# Altium footprint library zxevo.PcbLib: 77 footprints (part 3 of 5)
Each footprint in its own frame and in the unit in brackets; x right, y up, seen from the top. Pads: shape width x height; smd on the part's side, far side on the other; paste and mask are expansions set on the pad; w line width, h text height; cw(c..) or ccw(c..) is an arc to the next point about the centre after c.
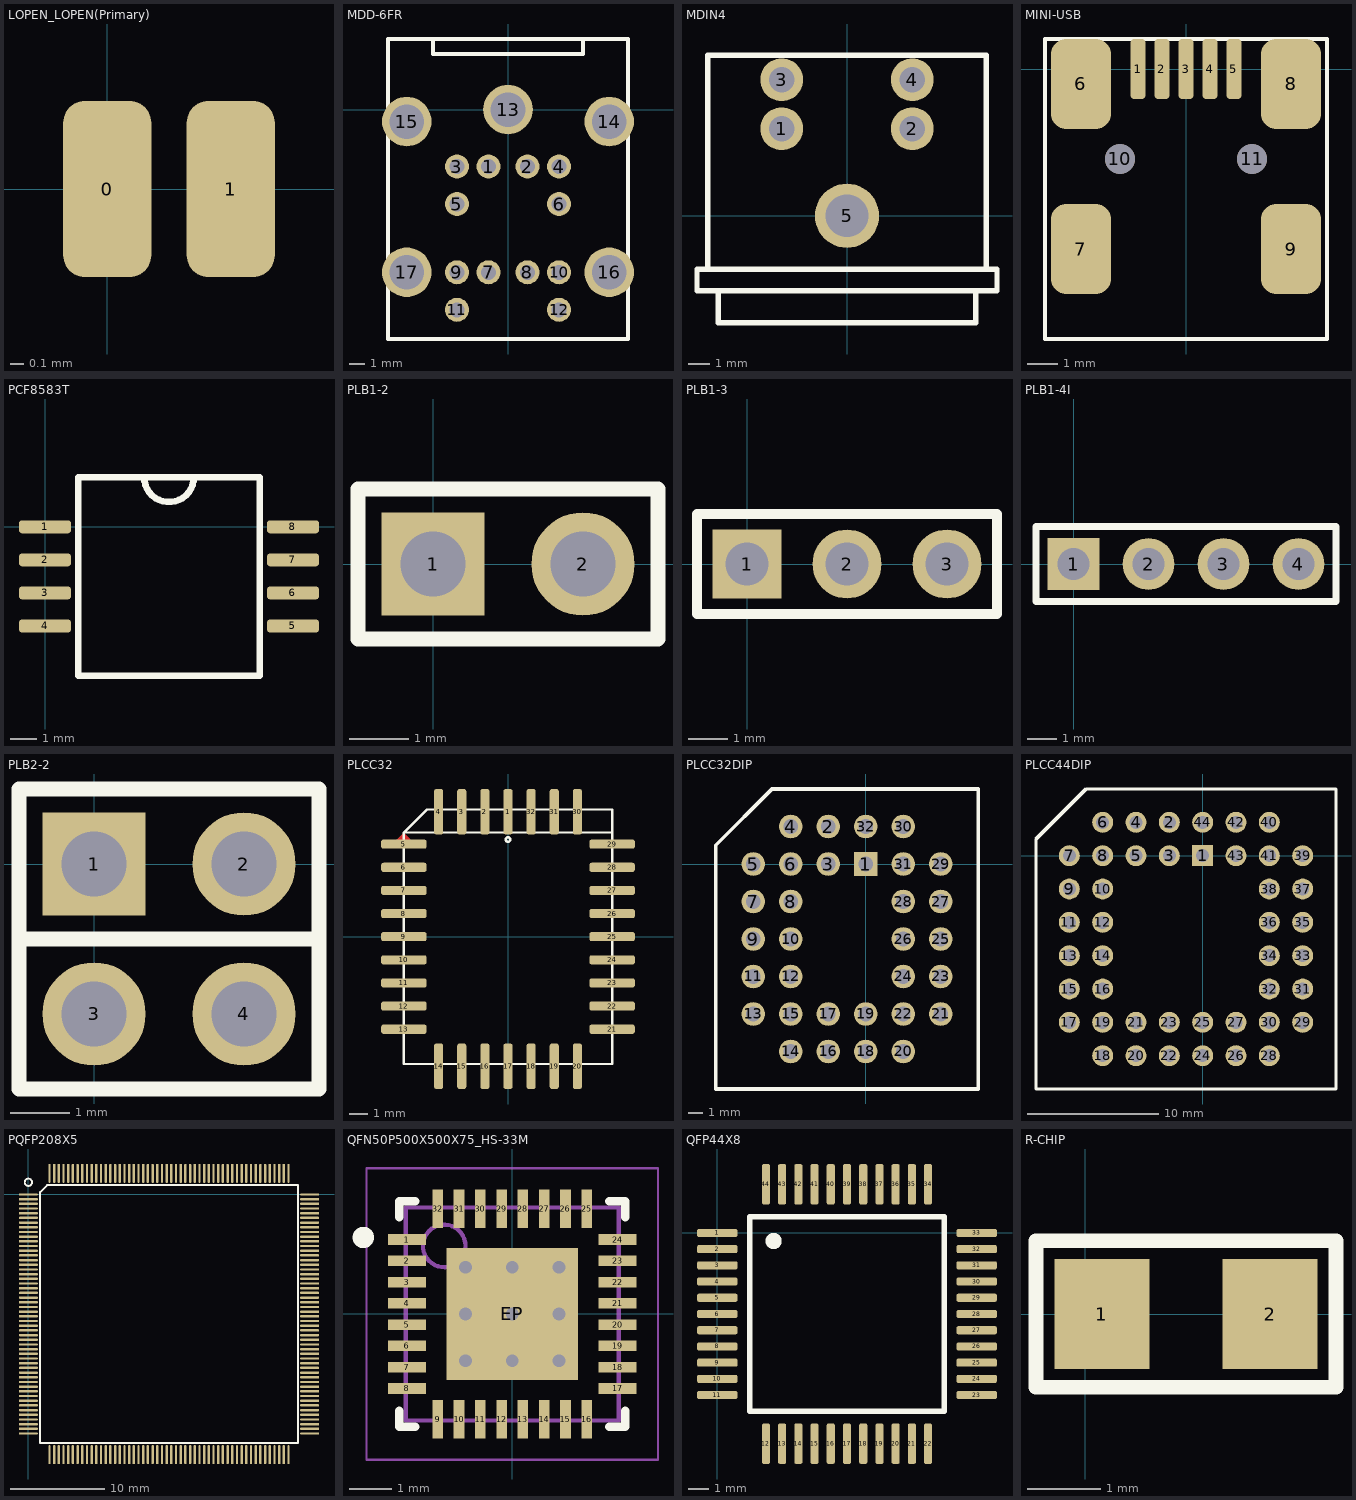
[diagram p2: the footprints below, top view; thin cyan lines are the x and y axes]

## LOPEN_LOPEN(Primary) [mil]
pads (2):
  rrect50% 25x50 smd: 0(0,0) 1(35,0)

## MDD-6FR [mm]
pads (17):
  round 1.6 hole 1: 1(-1.3,-3.8) 2(1.3,-3.8) 3(-3.4,-3.8) 4(3.4,-3.8) 5(-3.4,-6.3) 6(3.4,-6.3) 7(-1.3,-10.85) 8(1.3,-10.85) 9(-3.4,-10.85) 10(3.4,-10.85) 11(-3.4,-13.35) 12(3.4,-13.35)
  round 3.3 hole 2.3: 13(0,0) 14(6.75,-0.8) 15(-6.75,-0.8) 16(6.75,-10.85) 17(-6.75,-10.85)
Top Overlay:
  lines w0.254: -5,4.7 -5,3.7 5,3.7 5,4.7 ; -8,-15.3 8,-15.3 8,4.7 -8,4.7 -8,-15.3

## MDIN4 [mm]
pads (5):
  round 2 hole 1.2: 1(-3.048,4.064) 2(3.048,4.064) 3(-3.048,6.35) 4(3.048,6.35)
  round 3 hole 2: 5(0,0)
Top Overlay:
  lines w0.254: -6,-3.5 -6,-5 6,-5 6,-3.5 ; -6.5,-2.5 6.5,-2.5 ; -6.5,-2.5 -6.5,7.5 6.5,7.5 6.5,-2.5 ; -6.5,-2.5 -7,-2.5 -7,-3.5 7,-3.5 7,-2.5 6.5,-2.5

## MINI-USB [mm]
pads (11):
  rrect50% 0.5x2 smd: 1(-1.6,0) 2(-0.8,0) 3(0,0) 4(0.8,0) 5(1.6,0)
  rrect50% 2x3 smd: 6(-3.5,-0.5) 7(-3.5,-6) 8(3.5,-0.5) 9(3.5,-6)
  round 1 hole 1 unplated: 10(-2.2,-3) 11(2.2,-3)
Top Overlay:
  lines w0.127: -4.7,-9 -4.7,1 4.7,1 4.7,-9 -4.7,-9

## PCF8583T [mm]
pads (8):
  rrect50% 2x0.5 smd: 1(0,0) 2(0,-1.27) 3(0,-2.54) 4(0,-3.81) 5(9.525,-3.81) 6(9.525,-2.54) 7(9.525,-1.27) 8(9.525,0)
Top Overlay:
  lines w0.254: 3.81,1.905 ccw(c4.763,1.905) 5.715,1.905 ; 1.27,-5.715 8.255,-5.715 8.255,1.905 1.27,1.905 1.27,-5.715

## PLB1-2 [mm]
pads (2):
  rect 1.75x1.75 hole 1.1: 1(0,0)
  round 1.75 hole 1.1: 2(2.54,0)
Top Overlay:
  lines w0.254: -1.27,-1.27 -1.27,1.27 3.81,1.27 3.81,-1.27 -1.27,-1.27

## PLB1-3 [mm]
pads (3):
  rect 1.75x1.75 hole 1.1: 1(0,0)
  round 1.75 hole 1.1: 2(2.54,0) 3(5.08,0)
Top Overlay:
  lines w0.254: -1.27,-1.27 -1.27,1.27 6.35,1.27 6.35,-1.27 -1.27,-1.27

## PLB1-4I [mm]
pads (4):
  rect 1.75x1.75 hole 1.1: 1(0,0)
  round 1.75 hole 1.1: 2(2.54,0) 3(5.08,0) 4(7.62,0)
Top Overlay:
  lines w0.25: -1.27,-1.27 -1.27,1.27 8.89,1.27 8.89,-1.27 -1.27,-1.27

## PLB2-2 [mm]
pads (4):
  rect 1.75x1.75 hole 1.1: 1(0,0)
  round 1.75 hole 1.1: 2(2.54,0) 3(0,-2.54) 4(2.54,-2.54)
Top Overlay:
  lines w0.254: -1.27,-1.27 3.81,-1.27 ; -1.27,-3.81 -1.27,1.27 3.81,1.27 3.81,-3.81 -1.27,-3.81

## PLCC32 [mm]
pads (32):
  rrect50% 0.5x2.5 smd: 1(0,6.858) 2(-1.27,6.858) 3(-2.54,6.858) 4(-3.81,6.858) 14(-3.81,-7.112) 15(-2.54,-7.112) 16(-1.27,-7.112) 17(0,-7.112) 18(1.27,-7.112) 19(2.54,-7.112) 20(3.81,-7.112) 30(3.81,6.858) 31(2.54,6.858) 32(1.27,6.858)
  rrect50% 2.5x0.5 smd: 5(-5.715,5.08) 6(-5.715,3.81) 7(-5.715,2.54) 8(-5.715,1.27) 9(-5.715,0) 10(-5.715,-1.27) 11(-5.715,-2.54) 12(-5.715,-3.81) 13(-5.715,-5.08) 21(5.715,-5.08) 22(5.715,-3.81) 23(5.715,-2.54) 24(5.715,-1.27) 25(5.715,0) 26(5.715,1.27) 27(5.715,2.54) 28(5.715,3.81) 29(5.715,5.08)
Top Layer:
  region: -5.08,5.08 -5.715,5.715 -6.35,5.08
Top Overlay:
  circle w0.127: c0,5.334 r0.127
  lines w0.127: 5.715,5.715 -5.715,5.715 ; -5.715,5.715 -5.715,-6.985 5.715,-6.985 5.715,6.985 -4.445,6.985 -5.715,5.715

## PLCC32DIP [mm]
pads (32):
  rect 1.6x1.6 hole 1: 1(0,0)
  round 1.6 hole 1: 2(-2.54,2.54) 3(-2.54,0) 4(-5.08,2.54) 5(-7.62,0) 6(-5.08,0) 7(-7.62,-2.54) 8(-5.08,-2.54) 9(-7.62,-5.08) 10(-5.08,-5.08) 11(-7.62,-7.62) 12(-5.08,-7.62) 13(-7.62,-10.16) 14(-5.08,-12.7) 15(-5.08,-10.16) 16(-2.54,-12.7) 17(-2.54,-10.16) 18(0,-12.7) 19(0,-10.16) 20(2.54,-12.7) 21(5.08,-10.16) 22(2.54,-10.16) 23(5.08,-7.62) 24(2.54,-7.62) 25(5.08,-5.08) 26(2.54,-5.08) 27(5.08,-2.54) 28(2.54,-2.54) 29(5.08,0) 30(2.54,2.54) 31(2.54,0) 32(0,2.54)
Top Overlay:
  lines w0.254: -10.16,-15.24 7.62,-15.24 7.62,5.08 -6.35,5.08 -10.16,1.27 -10.16,-15.24

## PLCC44DIP [mm]
pads (44):
  rect 1.6x1.6 hole 1: 1(0,0)
  round 1.6 hole 1: 2(-2.54,2.54) 3(-2.54,0) 4(-5.08,2.54) 5(-5.08,0) 6(-7.62,2.54) 7(-10.16,0) 8(-7.62,0) 9(-10.16,-2.54) 10(-7.62,-2.54) 11(-10.16,-5.08) 12(-7.62,-5.08) 13(-10.16,-7.62) 14(-7.62,-7.62) 15(-10.16,-10.16) 16(-7.62,-10.16) 17(-10.16,-12.7) 18(-7.62,-15.24) 19(-7.62,-12.7) 20(-5.08,-15.24) 21(-5.08,-12.7) 22(-2.54,-15.24) 23(-2.54,-12.7) 24(0,-15.24) 25(0,-12.7) 26(2.54,-15.24) 27(2.54,-12.7) 28(5.08,-15.24) 29(7.62,-12.7) 30(5.08,-12.7) 31(7.62,-10.16) 32(5.08,-10.16) 33(7.62,-7.62) 34(5.08,-7.62) 35(7.62,-5.08) 36(5.08,-5.08) 37(7.62,-2.54) 38(5.08,-2.54) 39(7.62,0) 40(5.08,2.54) 41(5.08,0) 42(2.54,2.54) 43(2.54,0) 44(0,2.54)
Top Overlay:
  lines w0.254: -12.7,-17.78 10.16,-17.78 10.16,5.08 -8.89,5.08 -12.7,1.27 -12.7,-17.78

## PQFP208X5 [mm]
pads (208):
  rrect50% 2x0.25 smd: 1(0,0) 2(0,-0.5) 3(0,-1) 4(0,-1.5) 5(0,-2) 6(0,-2.5) 7(0,-3) 8(0,-3.5) 9(0,-4) 10(0,-4.5) 11(0,-5) 12(0,-5.5) 13(0,-6) 14(0,-6.5) 15(0,-7) 16(0,-7.5) 17(0,-8) 18(0,-8.5) 19(0,-9) 20(0,-9.5) 21(0,-10) 22(0,-10.5) 23(0,-11) 24(0,-11.5) 25(0,-12) 26(0,-12.5) 27(0,-13) 28(0,-13.5) 29(0,-14) 30(0,-14.5) 31(0,-15) 32(0,-15.5) 33(0,-16) 34(0,-16.5) 35(0,-17) 36(0,-17.5) 37(0,-18) 38(0,-18.5) 39(0,-19) 40(0,-19.5) 41(0,-20) 42(0,-20.5) 43(0,-21) 44(0,-21.5) 45(0,-22) 46(0,-22.5) 47(0,-23) 48(0,-23.5) 49(0,-24) 50(0,-24.5) 51(0,-25) 52(0,-25.5) 105(30,-25.5) 106(30,-25) 107(30,-24.5) 108(30,-24) 109(30,-23.5) 110(30,-23) 111(30,-22.5) 112(30,-22) 113(30,-21.5) 114(30,-21) 115(30,-20.5) 116(30,-20) 117(30,-19.5) 118(30,-19) 119(30,-18.5) 120(30,-18) 121(30,-17.5) 122(30,-17) 123(30,-16.5) 124(30,-16) 125(30,-15.5) 126(30,-15) 127(30,-14.5) 128(30,-14) 129(30,-13.5) 130(30,-13) 131(30,-12.5) 132(30,-12) 133(30,-11.5) 134(30,-11) 135(30,-10.5) 136(30,-10) 137(30,-9.5) 138(30,-9) 139(30,-8.5) 140(30,-8) 141(30,-7.5) 142(30,-7) 143(30,-6.5) 144(30,-6) 145(30,-5.5) 146(30,-5) 147(30,-4.5) 148(30,-4) 149(30,-3.5) 150(30,-3) 151(30,-2.5) 152(30,-2) 153(30,-1.5) 154(30,-1) 155(30,-0.5) 156(30,0)
  rrect50% 0.25x2 smd: 53(2.25,-27.75) 54(2.75,-27.75) 55(3.25,-27.75) 56(3.75,-27.75) 57(4.25,-27.75) 58(4.75,-27.75) 59(5.25,-27.75) 60(5.75,-27.75) 61(6.25,-27.75) 62(6.75,-27.75) 63(7.25,-27.75) 64(7.75,-27.75) 65(8.25,-27.75) 66(8.75,-27.75) 67(9.25,-27.75) 68(9.75,-27.75) 69(10.25,-27.75) 70(10.75,-27.75) 71(11.25,-27.75) 72(11.75,-27.75) 73(12.25,-27.75) 74(12.75,-27.75) 75(13.25,-27.75) 76(13.75,-27.75) 77(14.25,-27.75) 78(14.75,-27.75) 79(15.25,-27.75) 80(15.75,-27.75) 81(16.25,-27.75) 82(16.75,-27.75) 83(17.25,-27.75) 84(17.75,-27.75) 85(18.25,-27.75) 86(18.75,-27.75) 87(19.25,-27.75) 88(19.75,-27.75) 89(20.25,-27.75) 90(20.75,-27.75) 91(21.25,-27.75) 92(21.75,-27.75) 93(22.25,-27.75) 94(22.75,-27.75) 95(23.25,-27.75) 96(23.75,-27.75) 97(24.25,-27.75) 98(24.75,-27.75) 99(25.25,-27.75) 100(25.75,-27.75) 101(26.25,-27.75) 102(26.75,-27.75) 103(27.25,-27.75) 104(27.75,-27.75) 157(27.75,2.25) 158(27.25,2.25) 159(26.75,2.25) 160(26.25,2.25) 161(25.75,2.25) 162(25.25,2.25) 163(24.75,2.25) 164(24.25,2.25) 165(23.75,2.25) 166(23.25,2.25) 167(22.75,2.25) 168(22.25,2.25) 169(21.75,2.25) 170(21.25,2.25) 171(20.75,2.25) 172(20.25,2.25) 173(19.75,2.25) 174(19.25,2.25) 175(18.75,2.25) 176(18.25,2.25) 177(17.75,2.25) 178(17.25,2.25) 179(16.75,2.25) 180(16.25,2.25) 181(15.75,2.25) 182(15.25,2.25) 183(14.75,2.25) 184(14.25,2.25) 185(13.75,2.25) 186(13.25,2.25) 187(12.75,2.25) 188(12.25,2.25) 189(11.75,2.25) 190(11.25,2.25) 191(10.75,2.25) 192(10.25,2.25) 193(9.75,2.25) 194(9.25,2.25) 195(8.75,2.25) 196(8.25,2.25) 197(7.75,2.25) 198(7.25,2.25) 199(6.75,2.25) 200(6.25,2.25) 201(5.75,2.25) 202(5.25,2.25) 203(4.75,2.25) 204(4.25,2.25) 205(3.75,2.25) 206(3.25,2.25) 207(2.75,2.25) 208(2.25,2.25)
Top Overlay:
  circle w0.2: c0,1.3 r0.391
  lines w0.2: 1.25,-26.5 1.25,0.25 2,1 28.75,1 28.75,-26.5 1.25,-26.5
3D body "User Library-PQ208.STEP": height 4.15, standoff -0.08, extent -0.3,-28.05 30.3,2.55

## QFN50P500X500X75_HS-33M [mm] "QFN, 32-Leads, Body 5,00x5,00mm, Pitch 0,50mm, Thermal Pad 3,10x3,10mm, IPC Low Density"
height 0.75
pads (33):
  rect 0.9x0.25 smd: 1(-2.475,1.75) 2(-2.475,1.25) 3(-2.475,0.75) 4(-2.475,0.25) 5(-2.475,-0.25) 6(-2.475,-0.75) 7(-2.475,-1.25) 8(-2.475,-1.75) 17(2.475,-1.75) 18(2.475,-1.25) 19(2.475,-0.75) 20(2.475,-0.25) 21(2.475,0.25) 22(2.475,0.75) 23(2.475,1.25) 24(2.475,1.75)
  rect 0.25x0.9 smd: 9(-1.75,-2.475) 10(-1.25,-2.475) 11(-0.75,-2.475) 12(-0.25,-2.475) 13(0.25,-2.475) 14(0.75,-2.475) 15(1.25,-2.475) 16(1.75,-2.475) 25(1.75,2.475) 26(1.25,2.475) 27(0.75,2.475) 28(0.25,2.475) 29(-0.25,2.475) 30(-0.75,2.475) 31(-1.25,2.475) 32(-1.75,2.475)
  rect 3.1x3.1 smd: EP(0,0)
via 1.1,-1.1 diameter 0.6 hole 0.3
via 0,-1.1 diameter 0.6 hole 0.3
via -1.1,-1.1 diameter 0.6 hole 0.3
via 1.1,0 diameter 0.6 hole 0.3
via 0,0 diameter 0.6 hole 0.3
via -1.1,0 diameter 0.6 hole 0.3
via 1.1,1.1 diameter 0.6 hole 0.3
via 0,1.1 diameter 0.6 hole 0.3
via -1.1,1.1 diameter 0.6 hole 0.3
Top Overlay:
  circle w0.25: c-3.5,1.8 r0.125
  lines w0.2: -2.65,-2.275 -2.65,-2.65 -2.275,-2.65 ; -2.65,2.275 -2.65,2.65 -2.275,2.65 ; 2.275,-2.65 2.65,-2.65 2.65,-2.275 ; 2.275,2.65 2.65,2.65 2.65,2.275
Mechanical 13:
  circle w0.1: c-1.6,1.6 r0.5
  lines w0.1: -2.5,-2.5 2.5,-2.5 2.5,2.5 -2.5,2.5 -2.5,-2.5
Mechanical 15:
  lines w0.05: -3.425,-3.425 3.425,-3.425 3.425,3.425 -3.425,3.425 -3.425,-3.425
  lines w0.1: -0.5,0 0.5,0 ; 0,-0.5 0,0.5
3D body: height 0.75, standoff 0.02, extent -2.5,-2.5 2.5,2.5

## QFP44X8 [mm]
pads (44):
  rrect50% 2x0.4 smd: 1(0,0) 2(0,-0.8) 3(0,-1.6) 4(0,-2.4) 5(0,-3.2) 6(0,-4) 7(0,-4.8) 8(0,-5.6) 9(0,-6.4) 10(0,-7.2) 11(0,-8) 23(12.8,-8) 24(12.8,-7.2) 25(12.8,-6.4) 26(12.8,-5.6) 27(12.8,-4.8) 28(12.8,-4) 29(12.8,-3.2) 30(12.8,-2.4) 31(12.8,-1.6) 32(12.8,-0.8) 33(12.8,0)
  rrect50% 0.4x2 smd: 12(2.4,-10.4) 13(3.2,-10.4) 14(4,-10.4) 15(4.8,-10.4) 16(5.6,-10.4) 17(6.4,-10.4) 18(7.2,-10.4) 19(8,-10.4) 20(8.8,-10.4) 21(9.6,-10.4) 22(10.4,-10.4) 34(10.4,2.4) 35(9.6,2.4) 36(8.8,2.4) 37(8,2.4) 38(7.2,2.4) 39(6.4,2.4) 40(5.6,2.4) 41(4.8,2.4) 42(4,2.4) 43(3.2,2.4) 44(2.4,2.4)
Top Overlay:
  circle w0.4: c2.78,-0.4 r0.2
  lines w0.254: 1.6,-8.8 11.2,-8.8 11.2,0.8 1.6,0.8 1.6,-8.8

## R-CHIP [mm]
pads (2):
  rect 1.3x1.5 smd: 1(0.225,0) 2(2.525,0)
Top Overlay:
  lines w0.2: -0.675,-1 -0.675,1 3.425,1 3.425,-1 -0.675,-1
3D body "r0805.STEP": height 0.7, standoff 0, extent 0.397,-0.625 2.397,0.625